# EAGLE library part XS1-G04B-FB114 (library xmos)
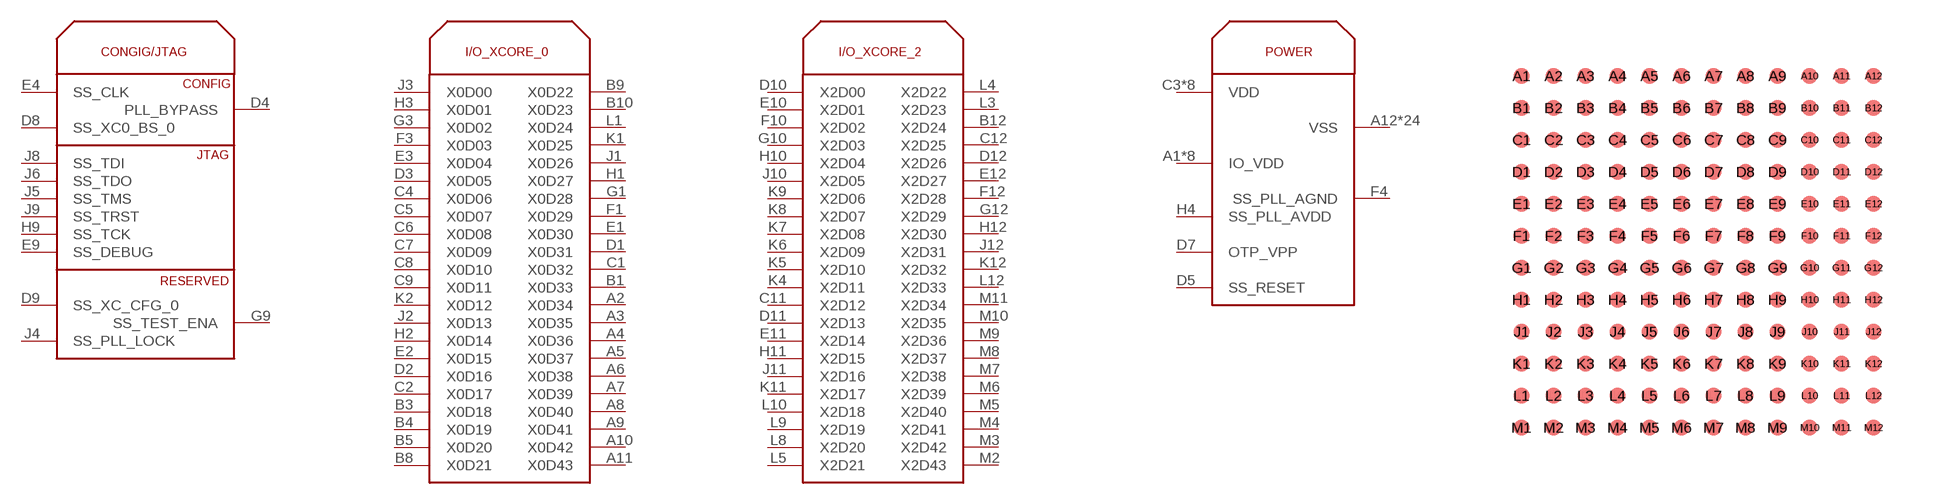
[diagram p5: symbol with the pads of FBGA144; footprint FBGA144]

Designator prefix -; gates G$1=XS1-G04B-FB144_CONFIG/JTAG G$2=XS1-G04B-FB144_I/O_XCORE_0 G$3=XS1-G04B-FB144_I/O_XCORE_2 G$4=XS1-G04B-FB144_POWER

## XS1-G04B-FB114  [FBGA144]
A1  G$4:IO_VDD
A2  G$2:X0D34
A3  G$2:X0D35
A4  G$2:X0D36
A5  G$2:X0D37
A6  G$2:X0D38
A7  G$2:X0D39
A8  G$2:X0D40
A9  G$2:X0D41
A10  G$2:X0D42
A11  G$2:X0D43
A12  G$4:VSS
B1  G$2:X0D33
B2  G$4:VSS
B3  G$2:X0D18
B4  G$2:X0D19
B5  G$2:X0D20
B6  G$4:IO_VDD
B7  G$4:VSS
B8  G$2:X0D21
B9  G$2:X0D22
B10  G$2:X0D23
B11  G$4:IO_VDD
B12  G$3:X2D24
C1  G$2:X0D32
C2  G$2:X0D17
C3  G$4:VDD
C4  G$2:X0D06
C5  G$2:X0D07
C6  G$2:X0D08
C7  G$2:X0D09
C8  G$2:X0D10
C9  G$2:X0D11
C10  G$4:VDD
C11  G$3:X2D12
C12  G$3:X2D25
D1  G$2:X0D31
D2  G$2:X0D16
D3  G$2:X0D05
D4  G$1:PLL_BYPASS
D5  G$4:SS_RESET
D6  G$4:VDD
D7  G$4:OTP_VPP
D8  G$1:SS_XC0_BS_0
D9  G$1:SS_XC_CFG_0
D10  G$3:X2D00
D11  G$3:X2D13
D12  G$3:X2D26
E1  G$2:X0D30
E2  G$2:X0D15
E3  G$2:X0D04
E4  G$1:SS_CLK
E5  G$4:VSS
E6  G$4:VSS
E7  G$4:VSS
E8  G$4:VSS
E9  G$1:SS_DEBUG
E10  G$3:X2D01
E11  G$3:X2D14
E12  G$3:X2D27
F1  G$2:X0D29
F2  G$4:IO_VDD
F3  G$2:X0D03
F4  G$4:SS_PLL_AGND
F5  G$4:VSS
F6  G$4:VSS
F7  G$4:VSS
F8  G$4:VSS
F9  G$4:VDD
F10  G$3:X2D02
F11  G$4:VSS
F12  G$3:X2D28
G1  G$2:X0D28
G2  G$4:VSS
G3  G$2:X0D02
G4  G$4:VDD
G5  G$4:VSS
G6  G$4:VSS
G7  G$4:VSS
G8  G$4:VSS
G9  G$1:SS_TEST_ENA
G10  G$3:X2D03
G11  G$4:IO_VDD
G12  G$3:X2D29
H1  G$2:X0D27
H2  G$2:X0D14
H3  G$2:X0D01
H4  G$4:SS_PLL_AVDD
H5  G$4:VSS
H6  G$4:VSS
H7  G$4:VSS
H8  G$4:VSS
H9  G$1:SS_TCK
H10  G$3:X2D04
H11  G$3:X2D15
H12  G$3:X2D30
J1  G$2:X0D26
J2  G$2:X0D13
J3  G$2:X0D00
J4  G$1:SS_PLL_LOCK
J5  G$1:SS_TMS
J6  G$1:SS_TDO
J7  G$4:VDD
J8  G$1:SS_TDI
J9  G$1:SS_TRST
J10  G$3:X2D05
J11  G$3:X2D16
J12  G$3:X2D31
K1  G$2:X0D25
K2  G$2:X0D12
K3  G$4:VDD
K4  G$3:X2D11
K5  G$3:X2D10
K6  G$3:X2D09
K7  G$3:X2D08
K8  G$3:X2D07
K9  G$3:X2D06
K10  G$4:VDD
K11  G$3:X2D17
K12  G$3:X2D32
L1  G$2:X0D24
L2  G$4:IO_VDD
L3  G$3:X2D23
L4  G$3:X2D22
L5  G$3:X2D21
L6  G$4:VSS
L7  G$4:IO_VDD
L8  G$3:X2D20
L9  G$3:X2D19
L10  G$3:X2D18
L11  G$4:VSS
L12  G$3:X2D33
M1  G$4:VSS
M2  G$3:X2D43
M3  G$3:X2D42
M4  G$3:X2D41
M5  G$3:X2D40
M6  G$3:X2D39
M7  G$3:X2D38
M8  G$3:X2D37
M9  G$3:X2D36
M10  G$3:X2D35
M11  G$3:X2D34
M12  G$4:IO_VDD

## Footprint FBGA144 (pad centres in mm)
smd 0.4 x 0.4: A1 -4.393,4.4; A2 -3.592,4.4; A3 -2.792,4.4; A4 -1.992,4.4; A5 -1.192,4.4; A6 -0.393,4.4; A7 0.407,4.4; A8 1.208,4.4; A9 2.007,4.4; A10 2.808,4.4; A11 3.607,4.4; A12 4.407,4.4; B1 -4.393,3.6; B2 -3.592,3.6; B3 -2.792,3.6; B4 -1.992,3.6; B5 -1.192,3.6; B6 -0.393,3.6; B7 0.407,3.6; B8 1.208,3.6; B9 2.007,3.6; B10 2.808,3.6; B11 3.607,3.6; B12 4.407,3.6; C1 -4.393,2.8; C2 -3.592,2.8; C3 -2.792,2.8; C4 -1.992,2.8; C5 -1.192,2.8; C6 -0.393,2.8; C7 0.407,2.8; C8 1.208,2.8; C9 2.007,2.8; C10 2.808,2.8; C11 3.607,2.8; C12 4.407,2.8; D1 -4.393,2; D2 -3.592,2; D3 -2.792,2; D4 -1.992,2; D5 -1.192,2; D6 -0.393,2; D7 0.407,2; D8 1.208,2; D9 2.007,2; D10 2.808,2; D11 3.607,2; D12 4.407,2; E1 -4.393,1.2; E2 -3.592,1.2; E3 -2.792,1.2; E4 -1.992,1.2; E5 -1.192,1.2; E6 -0.393,1.2; E7 0.407,1.2; E8 1.208,1.2; E9 2.007,1.2; E10 2.808,1.2; E11 3.607,1.2; E12 4.407,1.2; F1 -4.393,0.4; F2 -3.592,0.4; F3 -2.792,0.4; F4 -1.992,0.4; F5 -1.192,0.4; F6 -0.393,0.4; F7 0.407,0.4; F8 1.208,0.4; F9 2.007,0.4; F10 2.808,0.4; F11 3.607,0.4; F12 4.407,0.4; G1 -4.393,-0.4; G2 -3.592,-0.4; G3 -2.792,-0.4; G4 -1.992,-0.4; G5 -1.192,-0.4; G6 -0.393,-0.4; G7 0.407,-0.4; G8 1.208,-0.4; G9 2.007,-0.4; G10 2.808,-0.4; G11 3.607,-0.4; G12 4.407,-0.4; H1 -4.393,-1.2; H2 -3.592,-1.2; H3 -2.792,-1.2; H4 -1.992,-1.2; H5 -1.192,-1.2; H6 -0.393,-1.2; H7 0.407,-1.2; H8 1.208,-1.2; H9 2.007,-1.2; H10 2.808,-1.2; H11 3.607,-1.2; H12 4.407,-1.2; J1 -4.393,-2; J2 -3.592,-2; J3 -2.792,-2; J4 -1.992,-2; J5 -1.192,-2; J6 -0.393,-2; J7 0.407,-2; J8 1.208,-2; J9 2.007,-2; J10 2.808,-2; J11 3.607,-2; J12 4.407,-2; K1 -4.393,-2.8; K2 -3.592,-2.8; K3 -2.792,-2.8; K4 -1.992,-2.8; K5 -1.192,-2.8; K6 -0.393,-2.8; K7 0.407,-2.8; K8 1.208,-2.8; K9 2.007,-2.8; K10 2.808,-2.8; K11 3.607,-2.8; K12 4.407,-2.8; L1 -4.393,-3.6; L2 -3.592,-3.6; L3 -2.792,-3.6; L4 -1.992,-3.6; L5 -1.192,-3.6; L6 -0.393,-3.6; L7 0.407,-3.6; L8 1.208,-3.6; L9 2.007,-3.6; L10 2.808,-3.6; L11 3.607,-3.6; L12 4.407,-3.6; M1 -4.393,-4.4; M2 -3.592,-4.4; M3 -2.792,-4.4; M4 -1.992,-4.4; M5 -1.192,-4.4; M6 -0.393,-4.4; M7 0.407,-4.4; M8 1.208,-4.4; M9 2.007,-4.4; M10 2.808,-4.4; M11 3.607,-4.4; M12 4.407,-4.4